# Altium schematic symbol library Driver_TEC.SchLib: 2 symbols
Pins are listed as number, name and electrical type; pins without a type are passive.

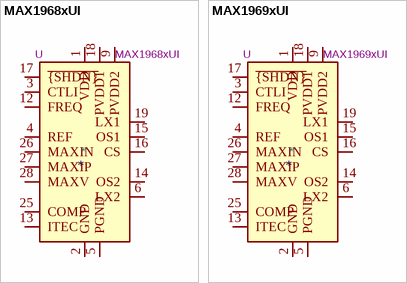
[diagram p0: symbols MAX1968xUI to MAX1969xUI]

## MAX1968xUI
designator *  value MAX1968xUI  Reference: U
ki_keywords: thermoelectric cooler; ki_description: Power Driver for Peltier TEC Modules, +-3A, HTSSOP-28; ki_fp_filters: HTSSOP*4.4x9.7mm*P0.65mm*; Footprint: Package_SO:HTSSOP-28-1EP_4.4x9.7mm_P0.65mm_EP2.85x5.4mm; Datasheet: https://datasheets.maximintegrated.com/en/ds/MAX1968-MAX1969.pdf
pins: 1 VDD, 2 GND, 3 CTLI, 4 REF, 5 PGND, 6 LX2, 7 PGND hidden, 8 LX2 hidden, 9 PVDD2, 10 LX2 hidden, 11 PVDD2 hidden, 12 FREQ, 13 ITEC, 14 OS2, 15 OS1, 16 CS, 17 ~{{SHDN}}, 18 PVDD1, 19 LX1, 20 PVDD1 hidden, 21 LX1 hidden, 22 PGND hidden, 23 LX1 hidden, 24 PGND hidden, 25 COMP, 26 MAXIN, 27 MAXIP, 28 MAXV, 29 GND hidden

## MAX1969xUI
designator *  value MAX1969xUI  Reference: U
ki_keywords: thermoelectric cooler; ki_description: Power Driver for Peltier TEC Modules, 6A, HTSSOP-28; ki_fp_filters: HTSSOP*4.4x9.7mm*P0.65mm*; Footprint: Package_SO:HTSSOP-28-1EP_4.4x9.7mm_P0.65mm_EP2.85x5.4mm; Datasheet: https://datasheets.maximintegrated.com/en/ds/MAX1968-MAX1969.pdf
pins: 1 VDD, 2 GND, 3 CTLI, 4 REF, 5 PGND, 6 LX2, 7 PGND hidden, 8 LX2 hidden, 9 PVDD2, 10 LX2 hidden, 11 PVDD2 hidden, 12 FREQ, 13 ITEC, 14 OS2, 15 OS1, 16 CS, 17 ~{{SHDN}}, 18 PVDD1, 19 LX1, 20 PVDD1 hidden, 21 LX1 hidden, 22 PGND hidden, 23 LX1 hidden, 24 PGND hidden, 25 COMP, 26 MAXIN, 27 MAXIP, 28 MAXV, 29 GND hidden